# Altium footprint library parts.PcbLib: 3 footprints
Each footprint in its own frame and in the unit in brackets; x right, y up, seen from the top. Pads: shape width x height; smd on the part's side, far side on the other; paste and mask are expansions set on the pad; w line width, h text height; cw(c..) or ccw(c..) is an arc to the next point about the centre after c.
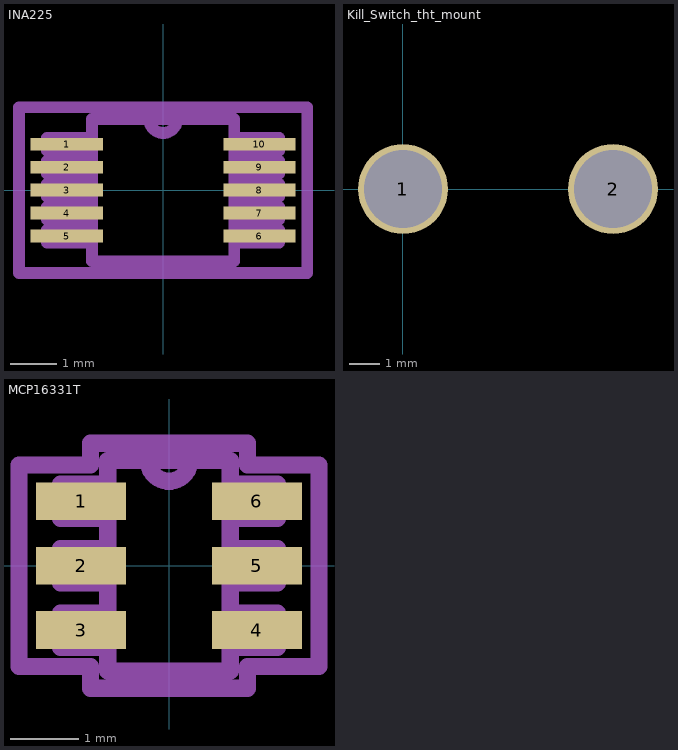
[diagram p0: the footprints below, top view; thin cyan lines are the x and y axes]

## INA225 [mil]
pads (10):
  rect 62x11 smd: 1(-82.5,39.37) 2(-82.5,19.68) 3(-82.5,0) 4(-82.5,-19.68) 5(-82.5,-39.37) 6(82.5,-39.37) 7(82.5,-19.68) 8(82.5,0) 9(82.5,19.68) 10(82.5,39.37)
F.SilkS:
  region: 133.5,31.87 123.5,31.87 123.5,46.87 133.5,46.87
  lines w10: -61,-61 61,-61 ; -61,61 61,61 ; -12,61 ccw(c0,61) 12,61
F.Fab:
  lines w10: -12,61 ccw(c0,61) 12,61 ; -99.5,-44.87 -99.5,-33.87 -61,-33.87 -61,-44.87 -99.5,-44.87 ; -99.5,-25.18 -99.5,-14.19 -61,-14.19 -61,-25.18 -99.5,-25.18 ; -99.5,-5.5 -99.5,5.5 -61,5.5 -61,-5.5 -99.5,-5.5 ; -99.5,14.19 -99.5,25.18 -61,25.18 -61,14.19 -99.5,14.19 ; -99.5,33.87 -99.5,44.87 -61,44.87 -61,33.87 -99.5,33.87 ; -61,-61 -61,61 61,61 61,-61 -61,-61 ; 61,-44.87 61,-33.87 99.5,-33.87 99.5,-44.87 61,-44.87 ; 61,-25.18 61,-14.19 99.5,-14.19 99.5,-25.18 61,-25.18 ; 61,-5.5 61,5.5 99.5,5.5 99.5,-5.5 61,-5.5 ; 61,14.19 61,25.18 99.5,25.18 99.5,14.19 61,14.19 ; 61,33.87 61,44.87 99.5,44.87 99.5,33.87 61,33.87
F.CrtYd:
  lines w10: -123.5,-71 -123.5,71 123.5,71 123.5,-71 -123.5,-71

## Kill_Switch_tht_mount [mm]
pads (2):
  round 3 hole 2.6: 1(0,0) 2(7,0)

## MCP16331T [mil]
pads (6):
  rect 52x22 smd: 1(-51,37.4) 2(-51,0) 3(-51,-37.4) 4(51,-37.4) 5(51,0) 6(51,37.4)
F.SilkS:
  lines w10: -40.5,-66 40.5,-66 ; -40.5,66 40.5,66
F.Fab:
  lines w10: -12,61 ccw(c0,61) 12,61 ; -63,-47.4 -63,-27.4 -35.5,-27.4 -35.5,-47.4 -63,-47.4 ; -63,-10 -63,10 -35.5,10 -35.5,-10 -63,-10 ; -63,27.4 -63,47.4 -35.5,47.4 -35.5,27.4 -63,27.4 ; -35.5,-61 -35.5,61 35.5,61 35.5,-61 -35.5,-61 ; 35.5,-47.4 35.5,-27.4 63,-27.4 63,-47.4 35.5,-47.4 ; 35.5,-10 35.5,10 63,10 63,-10 35.5,-10 ; 35.5,27.4 35.5,47.4 63,47.4 63,27.4 35.5,27.4
F.CrtYd:
  lines w10: -87,-58.4 -87,58.4 -45.5,58.4 -45.5,71 45.5,71 45.5,58.4 87,58.4 87,-58.4 45.5,-58.4 45.5,-71 -45.5,-71 -45.5,-58.4 -87,-58.4